# EAGLE library part H820F* (library rele)
RELAY
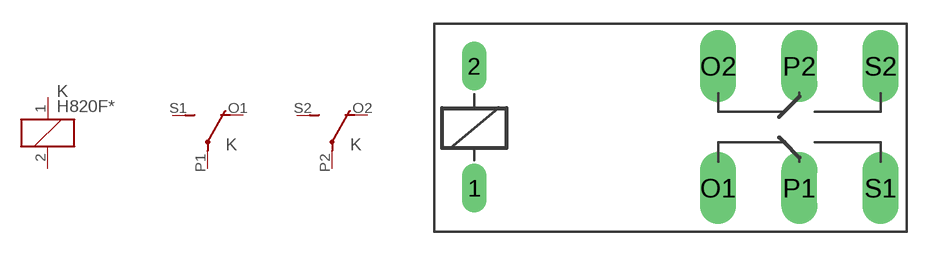
[diagram p9: symbol with the pads of H820; footprint H820]

Designator prefix K; gates G$1=K G$2=U G$3=U

## H820F05, H820F12, H820F24  [H820]
1  G$1:1  pas
2  G$1:2  pas
O1  G$2:O  pas
O2  G$3:O  pas
P1  G$2:P  pas
P2  G$3:P  pas
S1  G$2:S  pas
S2  G$3:S  pas

## Footprint H820 (pad centres in mm)
RELAY
drill 1.016 long: 1 -3.81,-3.81; 2 -3.81,3.81
drill 1.5 long: O1 11.43,-3.81; O2 11.43,3.81; P1 16.51,-3.81; P2 16.51,3.81; S1 21.59,-3.81; S2 21.59,3.81